# Altium integrated library Maxim Sensors.IntLib: 1171 symbols (part 7 of 61)
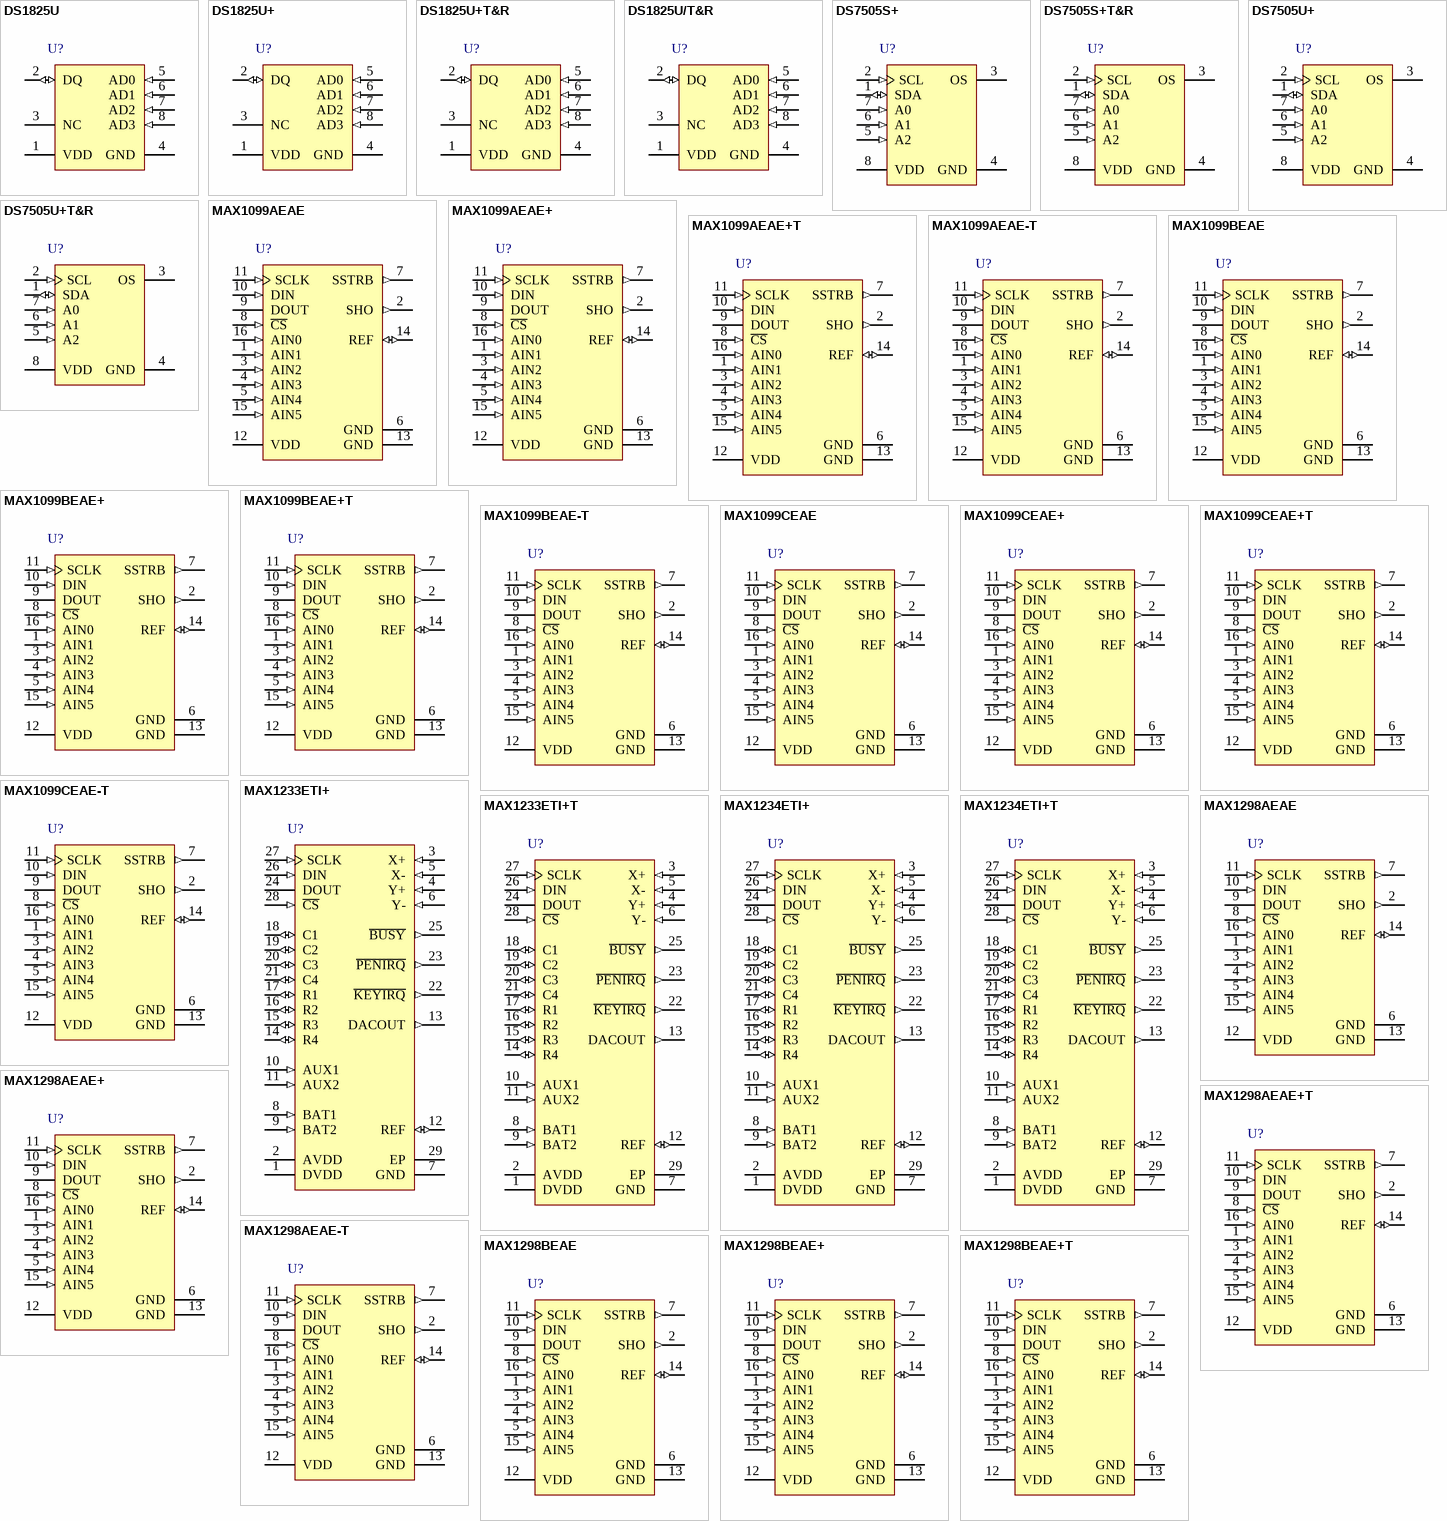
[diagram p39: symbols DS1825U to MAX1298BEAE+T]

## DS1825U+
designator U?
Programmable 1-Wire Digital Thermometer with 4-bit Address, -55 to 125 degC, 8-Pin SOP (U8+1), Pb-Free; Generic Part Number: DS1825; PartNumber: DS1825U+; Parasite Pwr.: Yes; Sensor Type: Local; Temp. Thresh.: Programmable (NV); DatasheetVersion: Rev. 0; PackageVersion: Rev. L, 08/2009; PackageReference: U8+1; PackageDescription: 8-Pin Micro-MAX, Thin Shrink Small-Outline (U8+1), Body 3 x 3 mm, Pitch 0.65 mm; Supplier 1: Digi-Key; Supplier Part Number 1: DS1825U+-ND; Supplier 2: Farnell; Supplier Part Number 2: 2085115; Supplier 3: Newark; Supplier Part Number 3: 89T8696; Supplier 4: Newark; Supplier Part Number 4: 57K0888; Supplier 5: Mouser; Supplier Part Number 5: 700-DS1825U; Interface: 1-Wire; RoHS: Pb-Free; Mounting Technology: Surface Mount; Code_JEDEC: MO-187; ComponentLink1Description: Manufacturer URL; ComponentLink1URL: http://www.maximintegrated.com/; ComponentLink2Description: Datasheet; ComponentLink2URL: http://datasheets.maximintegrated.com/en/ds/DS1825.pdf; ComponentLink3Description: Package Specification; ComponentLink3URL: http://pdfserv.maximintegrated.com/package_dwgs/21-0036.PDF
footprint MAXM-U8+1_N (SOP, 8-Leads, Body 3x3mm, Pitch 0.65mm, IPC Medium Density)
footprint MAXM-U8+1_L (SOP, 8-Leads, Body 3x3mm, Pitch 0.65mm, IPC High Density)
footprint MAXM-U8+1_M (SOP, 8-Leads, Body 3x3mm, Pitch 0.65mm, IPC Low Density)
pins: 1 VDD (power) "Optional VDD pin. VDD must be grounded for operation in parasite power mode.", 2 DQ (io) "Data Input/Output pin. Open-drain 1-Wire interface pin. Also provides power to the device when used in parasite power mode (see Parasite Power section.)", 3 NC "No Connection", 4 GND (power) "Ground.", 5 AD0 (in) "Location Address Input Pin LSB", 6 AD1 (in) "Location Address Input Pin", 7 AD2 (in) "Location Address Input Pin", 8 AD3 (in) "Location Address Input Pin MSB"

## DS1825U+T&R
designator U?
Programmable 1-Wire Digital Thermometer with 4-bit Address, -55 to 125 degC, 8-Pin SOP (U8+1), Pb-Free, Tape and Reel; Generic Part Number: DS1825; PartNumber: DS1825U+T&R; Parasite Pwr.: Yes; Sensor Type: Local; Temp. Thresh.: Programmable (NV); DatasheetVersion: Rev. 0; PackageVersion: Rev. L, 08/2009; PackageReference: U8+1; PackageDescription: 8-Pin Micro-MAX, Thin Shrink Small-Outline (U8+1), Body 3 x 3 mm, Pitch 0.65 mm; Supplier 1: Digi-Key; Supplier Part Number 1: DS1825U+T&R-ND; Supplier 2: Mouser; Supplier Part Number 2: 700-DS1825UT&R; Interface: 1-Wire; Packing: Tape and Reel; RoHS: Pb-Free; Mounting Technology: Surface Mount; Code_JEDEC: MO-187; ComponentLink1Description: Manufacturer URL; ComponentLink1URL: http://www.maximintegrated.com/; ComponentLink2Description: Datasheet; ComponentLink2URL: http://datasheets.maximintegrated.com/en/ds/DS1825.pdf; ComponentLink3Description: Package Specification; ComponentLink3URL: http://pdfserv.maximintegrated.com/package_dwgs/21-0036.PDF
footprint MAXM-U8+1_N (SOP, 8-Leads, Body 3x3mm, Pitch 0.65mm, IPC Medium Density)
footprint MAXM-U8+1_L (SOP, 8-Leads, Body 3x3mm, Pitch 0.65mm, IPC High Density)
footprint MAXM-U8+1_M (SOP, 8-Leads, Body 3x3mm, Pitch 0.65mm, IPC Low Density)
pins: 1 VDD (power) "Optional VDD pin. VDD must be grounded for operation in parasite power mode.", 2 DQ (io) "Data Input/Output pin. Open-drain 1-Wire interface pin. Also provides power to the device when used in parasite power mode (see Parasite Power section.)", 3 NC "No Connection", 4 GND (power) "Ground.", 5 AD0 (in) "Location Address Input Pin LSB", 6 AD1 (in) "Location Address Input Pin", 7 AD2 (in) "Location Address Input Pin", 8 AD3 (in) "Location Address Input Pin MSB"

## DS1825U/T&R
designator U?
Programmable 1-Wire Digital Thermometer with 4-bit Address, -55 to 125 degC, 8-Pin SOP (U8-1), Tape and Reel; Generic Part Number: DS1825; PartNumber: DS1825U/T&R; Parasite Pwr.: Yes; Sensor Type: Local; Temp. Thresh.: Programmable (NV); DatasheetVersion: Rev. 0; PackageVersion: Rev. L, 08/2009; PackageReference: U8-1; PackageDescription: 8-Pin Micro-MAX, Thin Shrink Small-Outline (U8-1), Body 3 x 3 mm, Pitch 0.65mm; Supplier 1: Mouser; Supplier Part Number 1: N/A; Interface: 1-Wire; Packing: Tape and Reel; Mounting Technology: Surface Mount; Code_JEDEC: MO-187; ComponentLink1Description: Manufacturer URL; ComponentLink1URL: http://www.maximintegrated.com/; ComponentLink2Description: Datasheet; ComponentLink2URL: http://datasheets.maximintegrated.com/en/ds/DS1825.pdf; ComponentLink3Description: Package Specification; ComponentLink3URL: http://pdfserv.maximintegrated.com/package_dwgs/21-0036.PDF
footprint MAXM-U8-1_N (SOP, 8-Leads, Body 3x3mm, Pitch 0.65mm, IPC Medium Density)
footprint MAXM-U8-1_L (SOP, 8-Leads, Body 3x3mm, Pitch 0.65mm, IPC High Density)
footprint MAXM-U8-1_M (SOP, 8-Leads, Body 3x3mm, Pitch 0.65mm, IPC Low Density)
pins: 1 VDD (power) "Optional VDD pin. VDD must be grounded for operation in parasite power mode.", 2 DQ (io) "Data Input/Output pin. Open-drain 1-Wire interface pin. Also provides power to the device when used in parasite power mode (see Parasite Power section.)", 3 NC "No Connection", 4 GND (power) "Ground.", 5 AD0 (in) "Location Address Input Pin LSB", 6 AD1 (in) "Location Address Input Pin", 7 AD2 (in) "Location Address Input Pin", 8 AD3 (in) "Location Address Input Pin MSB"

## DS7505S+
designator U?
High-Precision DS75 Compatible Digital Thermometer and Thermostat, 9 to 12 Bits Temperature Resolution, -55 to 125 degC, 8-Pin SOIC (S8+2), Pb-Free; Generic Part Number: DS7505; PartNumber: DS7505S+; Functions: Standalone Thermostat; Interface: 2-Wire/I2C/SMBus; Multi Droppable: Yes; Parasite Pwr.: No; DatasheetVersion: Rev. 1; PackageVersion: Rev. D, 10/2012; PackageReference: S8+2; PackageDescription: 8-Pin Small-Outline IC, Narrow (0.15in) (S8+2), Body 4.90 x 3.90 mm, Pitch 1.27 mm; Supplier 1: Digi-Key; Supplier Part Number 1: DS7505S+-ND; Supplier 2: Farnell; Supplier Part Number 2: 1673131; Supplier 3: Newark; Supplier Part Number 3: 26R5865; Supplier 4: Mouser; Supplier Part Number 4: 700-DS7505S; Mounting Technology: Surface Mount; Code_JEDEC: MS012; ComponentLink1Description: Manufacturer URL; ComponentLink1URL: http://www.maximintegrated.com/; ComponentLink2Description: Datasheet; ComponentLink2URL: http://datasheets.maximintegrated.com/en/ds/DS7505.pdf; ComponentLink3Description: Package Specification; ComponentLink3URL: http://pdfserv.maximintegrated.com/package_dwgs/21-0041.PDF
footprint MAXM-S8+2_N (SOIC, 8-Leads, Body 4.90x3.90mm, Pitch 1.27mm, IPC Medium Density)
footprint MAXM-S8+2_L (SOIC, 8-Leads, Body 4.90x3.90mm, Pitch 1.27mm, IPC High Density)
footprint MAXM-S8+2_M (SOIC, 8-Leads, Body 4.90x3.90mm, Pitch 1.27mm, IPC Low Density)
pins: 1 SDA (io) "Data input/output pin for 2-wire serial communication port. Open drain.", 2 SCL (in) "Clock input pin for 2-wire serial communication port.", 3 OS (oc) "Thermostat output. Open drain.", 4 GND (power) "Ground pin.", 5 A2 (in) "Address input pin.", 6 A1 (in) "Address input pin.", 7 A0 (in) "Address input pin.", 8 VDD (power) "Supply Voltage. +2.7V to +5.5V supply pin."

## DS7505S+T&R
designator U?
High-Precision DS75 Compatible Digital Thermometer and Thermostat, 9 to 12 Bits Temperature Resolution, -55 to 125 degC, 8-Pin SOIC (S8+2), Pb-Free, Tape and Reel; Generic Part Number: DS7505; PartNumber: DS7505S+T&R; Functions: Standalone Thermostat; Interface: 2-Wire/I2C/SMBus; Multi Droppable: Yes; Parasite Pwr.: No; DatasheetVersion: Rev. 1; PackageVersion: Rev. D, 10/2012; PackageReference: S8+2; PackageDescription: 8-Pin Small-Outline IC, Narrow (0.15in) (S8+2), Body 4.90 x 3.90 mm, Pitch 1.27 mm; Supplier 1: Digi-Key; Supplier Part Number 1: DS7505S+T&R-ND; Supplier 2: Mouser; Supplier Part Number 2: 700-DS7505S+T&R; Packing: Tape and Reel; Mounting Technology: Surface Mount; Code_JEDEC: MS012; ComponentLink1Description: Manufacturer URL; ComponentLink1URL: http://www.maximintegrated.com/; ComponentLink2Description: Datasheet; ComponentLink2URL: http://datasheets.maximintegrated.com/en/ds/DS7505.pdf; ComponentLink3Description: Package Specification; ComponentLink3URL: http://pdfserv.maximintegrated.com/package_dwgs/21-0041.PDF
footprint MAXM-S8+2_N (SOIC, 8-Leads, Body 4.90x3.90mm, Pitch 1.27mm, IPC Medium Density)
footprint MAXM-S8+2_L (SOIC, 8-Leads, Body 4.90x3.90mm, Pitch 1.27mm, IPC High Density)
footprint MAXM-S8+2_M (SOIC, 8-Leads, Body 4.90x3.90mm, Pitch 1.27mm, IPC Low Density)
pins: 1 SDA (io) "Data input/output pin for 2-wire serial communication port. Open drain.", 2 SCL (in) "Clock input pin for 2-wire serial communication port.", 3 OS (oc) "Thermostat output. Open drain.", 4 GND (power) "Ground pin.", 5 A2 (in) "Address input pin.", 6 A1 (in) "Address input pin.", 7 A0 (in) "Address input pin.", 8 VDD (power) "Supply Voltage. +2.7V to +5.5V supply pin."

## DS7505U+
designator U?
High-Precision DS75 Compatible Digital Thermometer and Thermostat, 9 to 12 Bits Temperature Resolution, -55 to 125 degC, 8-Pin SOP (U8+3), Pb-Free; Generic Part Number: DS7505; PartNumber: DS7505U+; Functions: Standalone Thermostat; Interface: 2-Wire/I2C/SMBus; Multi Droppable: Yes; Parasite Pwr.: No; DatasheetVersion: Rev. 1; PackageVersion: Rev. L, 08/2009; PackageReference: U8+3; PackageDescription: 8-Pin Micro-MAX, Thin Shrink Small-Outline (U8+3), Body 3 x 3 mm, Pitch 0.65 mm; Supplier 1: Digi-Key; Supplier Part Number 1: DS7505U+-ND; Supplier 2: Farnell; Supplier Part Number 2: 2212246; Supplier 3: Newark; Supplier Part Number 3: 45W6230; Supplier 4: Mouser; Supplier Part Number 4: 700-DS7505U; Mounting Technology: Surface Mount; Code_JEDEC: MO-187; ComponentLink1Description: Manufacturer URL; ComponentLink1URL: http://www.maximintegrated.com/; ComponentLink2Description: Datasheet; ComponentLink2URL: http://datasheets.maximintegrated.com/en/ds/DS7505.pdf; ComponentLink3Description: Package Specification; ComponentLink3URL: http://pdfserv.maximintegrated.com/package_dwgs/21-0036.PDF
footprint MAXM-U8+3_N (SOP, 8-Leads, Body 3x3mm, Pitch 0.65mm, IPC Medium Density)
footprint MAXM-U8+3_L (SOP, 8-Leads, Body 3x3mm, Pitch 0.65mm, IPC High Density)
footprint MAXM-U8+3_M (SOP, 8-Leads, Body 3x3mm, Pitch 0.65mm, IPC Low Density)
pins: 1 SDA (io) "Data input/output pin for 2-wire serial communication port. Open drain.", 2 SCL (in) "Clock input pin for 2-wire serial communication port.", 3 OS (oc) "Thermostat output. Open drain.", 4 GND (power) "Ground pin.", 5 A2 (in) "Address input pin.", 6 A1 (in) "Address input pin.", 7 A0 (in) "Address input pin.", 8 VDD (power) "Supply Voltage. +2.7V to +5.5V supply pin."

## DS7505U+T&R
designator U?
High-Precision DS75 Compatible Digital Thermometer and Thermostat, 9 to 12 Bits Temperature Resolution, -55 to 125 degC, 8-Pin SOP (U8+3), Pb-Free, Tape and Reel; Generic Part Number: DS7505; PartNumber: DS7505U+T&R; Functions: Standalone Thermostat; Interface: 2-Wire/I2C/SMBus; Multi Droppable: Yes; Parasite Pwr.: No; DatasheetVersion: Rev. 1; PackageVersion: Rev. L, 08/2009; PackageReference: U8+3; PackageDescription: 8-Pin Micro-MAX, Thin Shrink Small-Outline (U8+3), Body 3 x 3 mm, Pitch 0.65 mm; Supplier 1: Digi-Key; Supplier Part Number 1: DS7505U+T&R-ND; Supplier 2: Mouser; Supplier Part Number 2: 700-DS7505U+T&R; Packing: Tape and Reel; Mounting Technology: Surface Mount; Code_JEDEC: MO-187; ComponentLink1Description: Manufacturer URL; ComponentLink1URL: http://www.maximintegrated.com/; ComponentLink2Description: Datasheet; ComponentLink2URL: http://datasheets.maximintegrated.com/en/ds/DS7505.pdf; ComponentLink3Description: Package Specification; ComponentLink3URL: http://pdfserv.maximintegrated.com/package_dwgs/21-0036.PDF
footprint MAXM-U8+3_N (SOP, 8-Leads, Body 3x3mm, Pitch 0.65mm, IPC Medium Density)
footprint MAXM-U8+3_L (SOP, 8-Leads, Body 3x3mm, Pitch 0.65mm, IPC High Density)
footprint MAXM-U8+3_M (SOP, 8-Leads, Body 3x3mm, Pitch 0.65mm, IPC Low Density)
pins: 1 SDA (io) "Data input/output pin for 2-wire serial communication port. Open drain.", 2 SCL (in) "Clock input pin for 2-wire serial communication port.", 3 OS (oc) "Thermostat output. Open drain.", 4 GND (power) "Ground pin.", 5 A2 (in) "Address input pin.", 6 A1 (in) "Address input pin.", 7 A0 (in) "Address input pin.", 8 VDD (power) "Supply Voltage. +2.7V to +5.5V supply pin."

## MAX1099AEAE
designator U?
Serial-Output Temperature Sensor with Five-Channel ADC, 10 Bits Temperature Resolution, -40 to 85 degC, 16-Pin SOP (A16-3); Generic Part Number: MAX1099A; PartNumber: MAX1099AEAE; Interface: 3-Wire/SPI; Parasite Pwr.: No; DatasheetVersion: Rev. 0; PackageVersion: Rev. C, 02/2010; PackageReference: A16-3; PackageDescription: 16-Pin Shrink Small-Outline Package, Body 5.29 x 6.2 mm, Pitch 0.65 mm; Supplier 1: Mouser; Supplier Part Number 1: N/A; Mounting Technology: Surface Mount; Code_JEDEC: MO-150; ComponentLink1Description: Manufacturer URL; ComponentLink1URL: http://www.maximintegrated.com/; ComponentLink2Description: Datasheet; ComponentLink2URL: http://datasheets.maximintegrated.com/en/ds/MAX1098-MAX1099C.pdf; ComponentLink3Description: Package Specification; ComponentLink3URL: http://pdfserv.maximintegrated.com/package_dwgs/21-0056.PDF
footprint MAXM-A16-3_N (SOP, 16-Leads, Body 6.2x5.29mm, Pitch 0.65mm, IPC Medium Density)
footprint MAXM-A16-3_L (SOP, 16-Leads, Body 6.2x5.29mm, Pitch 0.65mm, IPC High Density)
footprint MAXM-A16-3_M (SOP, 16-Leads, Body 6.2x5.29mm, Pitch 0.65mm, IPC Low Density)
pins: 1 AIN1 (in) "Analog Input 1. Negative differential input relative to AIN0 or positive differential input relative to AIN5 (Table 5). Connect to the cathode of external diode 1 for remote temperature sensing", 2 SHO (out) "Shield Output. Used to suppress leakage currents at the anodes of remote temperature sensors (see Remote Diode Shielding). May also be connected to the shield of twisted-pair input cables used for remote temperature (See Datasheet)", 3 AIN2 (in) "Analog Input 2. Positive differential input relative to AIN3 or positive differential input relative to AIN5 (Table 5). Connect to the anode of external diode 2 for remote temperature sensing.", 4 AIN3 (in) "Analog Input 3. Negative differential input relative to AIN2 or positive differential input relative to AIN5 (Table 5). Connect to the cathode of external diode 2 for remote temperature sensing.", 5 AIN4 (in) "Analog input 4. Positive differential input relative to AIN5 (Table 5).", 6 GND (power) "Ground. Connect to pin 13.", 7 SSTRB (out) "Serial Strobe Output. SSTRB goes low at the beginning of an A/D conversion, and it goes high when the conversion is finished.", 8 ~{CS} (in) "Active-Low Chip Select. Data will not be clocked into DIN unless C\S\ is low. When C\S\ is high, DOUT is at high impedance.", 9 DOUT (hiz) "Serial Data Output. DOUT transitions on the falling edge of SCLK.", 10 DIN (in) "Serial Data Input. DIN latches data on the rising edge of SCLK. 11 SCLK Serial Clock Input. Clocks data in and out of the serial interface.", 11 SCLK (in) "Serial Clock Input. Clocks data in and out of the serial interface.", 12 VDD (power) "Positive Supply Voltage. Bypass with a 0.1uF capacitor to GND (pin 13).", 13 GND (power) "Ground (star ground)", 14 REF (io) "Reference-Buffer Output/ADC Reference Input. Reference voltage for A/D conversion. Bypass to GND (pin 13) with a 0.1uF capacitor. Select reference mode by writing to configuration byte (Table 2).", 15 AIN5 (in) "Analog Input 5. Negative differential input relative to AIN0-AIN4 (Table 5).", 16 AIN0 (in) "Analog Input 0. Positive differential input relative to AIN1 or positive differential input relative to AIN5 (Table 5). Connect to the anode of external diode 1 for remote temperature sensing."

## MAX1099AEAE+
designator U?
Serial-Output Temperature Sensor with Five-Channel ADC, 10 Bits Temperature Resolution, -40 to 85 degC, 16-Pin SOP (A16+3), Pb-Free; Generic Part Number: MAX1099A; PartNumber: MAX1099AEAE+; Interface: 3-Wire/SPI; Parasite Pwr.: No; DatasheetVersion: Rev. 0; PackageVersion: Rev. C, 02/2010; PackageReference: A16+3; PackageDescription: 16-Pin Shrink Small-Outline Package, Body 5.29 x 6.2 mm, Pitch 0.65 mm; Supplier 1: Mouser; Supplier Part Number 1: N/A; Mounting Technology: Surface Mount; Code_JEDEC: MO-150; ComponentLink1Description: Manufacturer URL; ComponentLink1URL: http://www.maximintegrated.com/; ComponentLink2Description: Datasheet; ComponentLink2URL: http://datasheets.maximintegrated.com/en/ds/MAX1098-MAX1099C.pdf; ComponentLink3Description: Package Specification; ComponentLink3URL: http://pdfserv.maximintegrated.com/package_dwgs/21-0056.PDF
footprint MAXM-A16+3_N (SOP, 16-Leads, Body 6.2x5.29mm, Pitch 0.65mm, IPC Medium Density)
footprint MAXM-A16+3_L (SOP, 16-Leads, Body 6.2x5.29mm, Pitch 0.65mm, IPC High Density)
footprint MAXM-A16+3_M (SOP, 16-Leads, Body 6.2x5.29mm, Pitch 0.65mm, IPC Low Density)
pins: 1 AIN1 (in) "Analog Input 1. Negative differential input relative to AIN0 or positive differential input relative to AIN5 (Table 5). Connect to the cathode of external diode 1 for remote temperature sensing", 2 SHO (out) "Shield Output. Used to suppress leakage currents at the anodes of remote temperature sensors (see Remote Diode Shielding). May also be connected to the shield of twisted-pair input cables used for remote temperature (See Datasheet)", 3 AIN2 (in) "Analog Input 2. Positive differential input relative to AIN3 or positive differential input relative to AIN5 (Table 5). Connect to the anode of external diode 2 for remote temperature sensing.", 4 AIN3 (in) "Analog Input 3. Negative differential input relative to AIN2 or positive differential input relative to AIN5 (Table 5). Connect to the cathode of external diode 2 for remote temperature sensing.", 5 AIN4 (in) "Analog input 4. Positive differential input relative to AIN5 (Table 5).", 6 GND (power) "Ground. Connect to pin 13.", 7 SSTRB (out) "Serial Strobe Output. SSTRB goes low at the beginning of an A/D conversion, and it goes high when the conversion is finished.", 8 ~{CS} (in) "Active-Low Chip Select. Data will not be clocked into DIN unless C\S\ is low. When C\S\ is high, DOUT is at high impedance.", 9 DOUT (hiz) "Serial Data Output. DOUT transitions on the falling edge of SCLK.", 10 DIN (in) "Serial Data Input. DIN latches data on the rising edge of SCLK. 11 SCLK Serial Clock Input. Clocks data in and out of the serial interface.", 11 SCLK (in) "Serial Clock Input. Clocks data in and out of the serial interface.", 12 VDD (power) "Positive Supply Voltage. Bypass with a 0.1uF capacitor to GND (pin 13).", 13 GND (power) "Ground (star ground)", 14 REF (io) "Reference-Buffer Output/ADC Reference Input. Reference voltage for A/D conversion. Bypass to GND (pin 13) with a 0.1uF capacitor. Select reference mode by writing to configuration byte (Table 2).", 15 AIN5 (in) "Analog Input 5. Negative differential input relative to AIN0-AIN4 (Table 5).", 16 AIN0 (in) "Analog Input 0. Positive differential input relative to AIN1 or positive differential input relative to AIN5 (Table 5). Connect to the anode of external diode 1 for remote temperature sensing."

## MAX1099AEAE+T
designator U?
Serial-Output Temperature Sensor with Five-Channel ADC, 10 Bits Temperature Resolution, -40 to 85 degC, 16-Pin SOP (A16+3), Pb-Free, Tape and Reel; Generic Part Number: MAX1099A; PartNumber: MAX1099AEAE+T; Interface: 3-Wire/SPI; Parasite Pwr.: No; DatasheetVersion: Rev. 0; PackageVersion: Rev. C, 02/2010; PackageReference: A16+3; PackageDescription: 16-Pin Shrink Small-Outline Package, Body 5.29 x 6.2 mm, Pitch 0.65 mm; Supplier 1: Mouser; Supplier Part Number 1: N/A; Packing: Tape and Reel; Mounting Technology: Surface Mount; Code_JEDEC: MO-150; ComponentLink1Description: Manufacturer URL; ComponentLink1URL: http://www.maximintegrated.com/; ComponentLink2Description: Datasheet; ComponentLink2URL: http://datasheets.maximintegrated.com/en/ds/MAX1098-MAX1099C.pdf; ComponentLink3Description: Package Specification; ComponentLink3URL: http://pdfserv.maximintegrated.com/package_dwgs/21-0056.PDF
footprint MAXM-A16+3_N (SOP, 16-Leads, Body 6.2x5.29mm, Pitch 0.65mm, IPC Medium Density)
footprint MAXM-A16+3_L (SOP, 16-Leads, Body 6.2x5.29mm, Pitch 0.65mm, IPC High Density)
footprint MAXM-A16+3_M (SOP, 16-Leads, Body 6.2x5.29mm, Pitch 0.65mm, IPC Low Density)
pins: 1 AIN1 (in) "Analog Input 1. Negative differential input relative to AIN0 or positive differential input relative to AIN5 (Table 5). Connect to the cathode of external diode 1 for remote temperature sensing", 2 SHO (out) "Shield Output. Used to suppress leakage currents at the anodes of remote temperature sensors (see Remote Diode Shielding). May also be connected to the shield of twisted-pair input cables used for remote temperature (See Datasheet)", 3 AIN2 (in) "Analog Input 2. Positive differential input relative to AIN3 or positive differential input relative to AIN5 (Table 5). Connect to the anode of external diode 2 for remote temperature sensing.", 4 AIN3 (in) "Analog Input 3. Negative differential input relative to AIN2 or positive differential input relative to AIN5 (Table 5). Connect to the cathode of external diode 2 for remote temperature sensing.", 5 AIN4 (in) "Analog input 4. Positive differential input relative to AIN5 (Table 5).", 6 GND (power) "Ground. Connect to pin 13.", 7 SSTRB (out) "Serial Strobe Output. SSTRB goes low at the beginning of an A/D conversion, and it goes high when the conversion is finished.", 8 ~{CS} (in) "Active-Low Chip Select. Data will not be clocked into DIN unless C\S\ is low. When C\S\ is high, DOUT is at high impedance.", 9 DOUT (hiz) "Serial Data Output. DOUT transitions on the falling edge of SCLK.", 10 DIN (in) "Serial Data Input. DIN latches data on the rising edge of SCLK. 11 SCLK Serial Clock Input. Clocks data in and out of the serial interface.", 11 SCLK (in) "Serial Clock Input. Clocks data in and out of the serial interface.", 12 VDD (power) "Positive Supply Voltage. Bypass with a 0.1uF capacitor to GND (pin 13).", 13 GND (power) "Ground (star ground)", 14 REF (io) "Reference-Buffer Output/ADC Reference Input. Reference voltage for A/D conversion. Bypass to GND (pin 13) with a 0.1uF capacitor. Select reference mode by writing to configuration byte (Table 2).", 15 AIN5 (in) "Analog Input 5. Negative differential input relative to AIN0-AIN4 (Table 5).", 16 AIN0 (in) "Analog Input 0. Positive differential input relative to AIN1 or positive differential input relative to AIN5 (Table 5). Connect to the anode of external diode 1 for remote temperature sensing."

## MAX1099AEAE-T
designator U?
Serial-Output Temperature Sensor with Five-Channel ADC, 10 Bits Temperature Resolution, -40 to 85 degC, 16-Pin SOP (A16-3), Tape and Reel; Generic Part Number: MAX1099A; PartNumber: MAX1099AEAE-T; Interface: 3-Wire/SPI; Parasite Pwr.: No; DatasheetVersion: Rev. 0; PackageVersion: Rev. C, 02/2010; PackageReference: A16-3; PackageDescription: 16-Pin Shrink Small-Outline Package, Body 5.29 x 6.2 mm, Pitch 0.65 mm; Supplier 1: Mouser; Supplier Part Number 1: N/A; Packing: Tape and Reel; Mounting Technology: Surface Mount; Code_JEDEC: MO-150; ComponentLink1Description: Manufacturer URL; ComponentLink1URL: http://www.maximintegrated.com/; ComponentLink2Description: Datasheet; ComponentLink2URL: http://datasheets.maximintegrated.com/en/ds/MAX1098-MAX1099C.pdf; ComponentLink3Description: Package Specification; ComponentLink3URL: http://pdfserv.maximintegrated.com/package_dwgs/21-0056.PDF
footprint MAXM-A16-3_N (SOP, 16-Leads, Body 6.2x5.29mm, Pitch 0.65mm, IPC Medium Density)
footprint MAXM-A16-3_L (SOP, 16-Leads, Body 6.2x5.29mm, Pitch 0.65mm, IPC High Density)
footprint MAXM-A16-3_M (SOP, 16-Leads, Body 6.2x5.29mm, Pitch 0.65mm, IPC Low Density)
pins: 1 AIN1 (in) "Analog Input 1. Negative differential input relative to AIN0 or positive differential input relative to AIN5 (Table 5). Connect to the cathode of external diode 1 for remote temperature sensing", 2 SHO (out) "Shield Output. Used to suppress leakage currents at the anodes of remote temperature sensors (see Remote Diode Shielding). May also be connected to the shield of twisted-pair input cables used for remote temperature (See Datasheet)", 3 AIN2 (in) "Analog Input 2. Positive differential input relative to AIN3 or positive differential input relative to AIN5 (Table 5). Connect to the anode of external diode 2 for remote temperature sensing.", 4 AIN3 (in) "Analog Input 3. Negative differential input relative to AIN2 or positive differential input relative to AIN5 (Table 5). Connect to the cathode of external diode 2 for remote temperature sensing.", 5 AIN4 (in) "Analog input 4. Positive differential input relative to AIN5 (Table 5).", 6 GND (power) "Ground. Connect to pin 13.", 7 SSTRB (out) "Serial Strobe Output. SSTRB goes low at the beginning of an A/D conversion, and it goes high when the conversion is finished.", 8 ~{CS} (in) "Active-Low Chip Select. Data will not be clocked into DIN unless C\S\ is low. When C\S\ is high, DOUT is at high impedance.", 9 DOUT (hiz) "Serial Data Output. DOUT transitions on the falling edge of SCLK.", 10 DIN (in) "Serial Data Input. DIN latches data on the rising edge of SCLK. 11 SCLK Serial Clock Input. Clocks data in and out of the serial interface.", 11 SCLK (in) "Serial Clock Input. Clocks data in and out of the serial interface.", 12 VDD (power) "Positive Supply Voltage. Bypass with a 0.1uF capacitor to GND (pin 13).", 13 GND (power) "Ground (star ground)", 14 REF (io) "Reference-Buffer Output/ADC Reference Input. Reference voltage for A/D conversion. Bypass to GND (pin 13) with a 0.1uF capacitor. Select reference mode by writing to configuration byte (Table 2).", 15 AIN5 (in) "Analog Input 5. Negative differential input relative to AIN0-AIN4 (Table 5).", 16 AIN0 (in) "Analog Input 0. Positive differential input relative to AIN1 or positive differential input relative to AIN5 (Table 5). Connect to the anode of external diode 1 for remote temperature sensing."

## MAX1099BEAE
designator U?
Serial-Output Temperature Sensor with Five-Channel ADC, 10 Bits Temperature Resolution, -40 to 85 degC, 16-Pin SOP (A16-3); Generic Part Number: MAX1099B; PartNumber: MAX1099BEAE; Interface: 3-Wire/SPI; Parasite Pwr.: No; DatasheetVersion: Rev. 0; PackageVersion: Rev. C, 02/2010; PackageReference: A16-3; PackageDescription: 16-Pin Shrink Small-Outline Package, Body 5.29 x 6.2 mm, Pitch 0.65 mm; Supplier 1: Mouser; Supplier Part Number 1: N/A; Mounting Technology: Surface Mount; Code_JEDEC: MO-150; ComponentLink1Description: Manufacturer URL; ComponentLink1URL: http://www.maximintegrated.com/; ComponentLink2Description: Datasheet; ComponentLink2URL: http://datasheets.maximintegrated.com/en/ds/MAX1098-MAX1099C.pdf; ComponentLink3Description: Package Specification; ComponentLink3URL: http://pdfserv.maximintegrated.com/package_dwgs/21-0056.PDF
footprint MAXM-A16-3_N (SOP, 16-Leads, Body 6.2x5.29mm, Pitch 0.65mm, IPC Medium Density)
footprint MAXM-A16-3_L (SOP, 16-Leads, Body 6.2x5.29mm, Pitch 0.65mm, IPC High Density)
footprint MAXM-A16-3_M (SOP, 16-Leads, Body 6.2x5.29mm, Pitch 0.65mm, IPC Low Density)
pins: 1 AIN1 (in) "Analog Input 1. Negative differential input relative to AIN0 or positive differential input relative to AIN5 (Table 5). Connect to the cathode of external diode 1 for remote temperature sensing", 2 SHO (out) "Shield Output. Used to suppress leakage currents at the anodes of remote temperature sensors (see Remote Diode Shielding). May also be connected to the shield of twisted-pair input cables used for remote temperature (See Datasheet)", 3 AIN2 (in) "Analog Input 2. Positive differential input relative to AIN3 or positive differential input relative to AIN5 (Table 5). Connect to the anode of external diode 2 for remote temperature sensing.", 4 AIN3 (in) "Analog Input 3. Negative differential input relative to AIN2 or positive differential input relative to AIN5 (Table 5). Connect to the cathode of external diode 2 for remote temperature sensing.", 5 AIN4 (in) "Analog input 4. Positive differential input relative to AIN5 (Table 5).", 6 GND (power) "Ground. Connect to pin 13.", 7 SSTRB (out) "Serial Strobe Output. SSTRB goes low at the beginning of an A/D conversion, and it goes high when the conversion is finished.", 8 ~{CS} (in) "Active-Low Chip Select. Data will not be clocked into DIN unless C\S\ is low. When C\S\ is high, DOUT is at high impedance.", 9 DOUT (hiz) "Serial Data Output. DOUT transitions on the falling edge of SCLK.", 10 DIN (in) "Serial Data Input. DIN latches data on the rising edge of SCLK. 11 SCLK Serial Clock Input. Clocks data in and out of the serial interface.", 11 SCLK (in) "Serial Clock Input. Clocks data in and out of the serial interface.", 12 VDD (power) "Positive Supply Voltage. Bypass with a 0.1uF capacitor to GND (pin 13).", 13 GND (power) "Ground (star ground)", 14 REF (io) "Reference-Buffer Output/ADC Reference Input. Reference voltage for A/D conversion. Bypass to GND (pin 13) with a 0.1uF capacitor. Select reference mode by writing to configuration byte (Table 2).", 15 AIN5 (in) "Analog Input 5. Negative differential input relative to AIN0-AIN4 (Table 5).", 16 AIN0 (in) "Analog Input 0. Positive differential input relative to AIN1 or positive differential input relative to AIN5 (Table 5). Connect to the anode of external diode 1 for remote temperature sensing."

## MAX1099BEAE+
designator U?
Serial-Output Temperature Sensor with Five-Channel ADC, 10 Bits Temperature Resolution, -40 to 85 degC, 16-Pin SOP (A16+3), Pb-Free; Generic Part Number: MAX1099B; PartNumber: MAX1099BEAE+; Interface: 3-Wire/SPI; Parasite Pwr.: No; DatasheetVersion: Rev. 0; PackageVersion: Rev. C, 02/2010; PackageReference: A16+3; PackageDescription: 16-Pin Shrink Small-Outline Package, Body 5.29 x 6.2 mm, Pitch 0.65 mm; Supplier 1: Mouser; Supplier Part Number 1: N/A; Mounting Technology: Surface Mount; Code_JEDEC: MO-150; ComponentLink1Description: Manufacturer URL; ComponentLink1URL: http://www.maximintegrated.com/; ComponentLink2Description: Datasheet; ComponentLink2URL: http://datasheets.maximintegrated.com/en/ds/MAX1098-MAX1099C.pdf; ComponentLink3Description: Package Specification; ComponentLink3URL: http://pdfserv.maximintegrated.com/package_dwgs/21-0056.PDF
footprint MAXM-A16+3_N (SOP, 16-Leads, Body 6.2x5.29mm, Pitch 0.65mm, IPC Medium Density)
footprint MAXM-A16+3_L (SOP, 16-Leads, Body 6.2x5.29mm, Pitch 0.65mm, IPC High Density)
footprint MAXM-A16+3_M (SOP, 16-Leads, Body 6.2x5.29mm, Pitch 0.65mm, IPC Low Density)
pins: 1 AIN1 (in) "Analog Input 1. Negative differential input relative to AIN0 or positive differential input relative to AIN5 (Table 5). Connect to the cathode of external diode 1 for remote temperature sensing", 2 SHO (out) "Shield Output. Used to suppress leakage currents at the anodes of remote temperature sensors (see Remote Diode Shielding). May also be connected to the shield of twisted-pair input cables used for remote temperature (See Datasheet)", 3 AIN2 (in) "Analog Input 2. Positive differential input relative to AIN3 or positive differential input relative to AIN5 (Table 5). Connect to the anode of external diode 2 for remote temperature sensing.", 4 AIN3 (in) "Analog Input 3. Negative differential input relative to AIN2 or positive differential input relative to AIN5 (Table 5). Connect to the cathode of external diode 2 for remote temperature sensing.", 5 AIN4 (in) "Analog input 4. Positive differential input relative to AIN5 (Table 5).", 6 GND (power) "Ground. Connect to pin 13.", 7 SSTRB (out) "Serial Strobe Output. SSTRB goes low at the beginning of an A/D conversion, and it goes high when the conversion is finished.", 8 ~{CS} (in) "Active-Low Chip Select. Data will not be clocked into DIN unless C\S\ is low. When C\S\ is high, DOUT is at high impedance.", 9 DOUT (hiz) "Serial Data Output. DOUT transitions on the falling edge of SCLK.", 10 DIN (in) "Serial Data Input. DIN latches data on the rising edge of SCLK. 11 SCLK Serial Clock Input. Clocks data in and out of the serial interface.", 11 SCLK (in) "Serial Clock Input. Clocks data in and out of the serial interface.", 12 VDD (power) "Positive Supply Voltage. Bypass with a 0.1uF capacitor to GND (pin 13).", 13 GND (power) "Ground (star ground)", 14 REF (io) "Reference-Buffer Output/ADC Reference Input. Reference voltage for A/D conversion. Bypass to GND (pin 13) with a 0.1uF capacitor. Select reference mode by writing to configuration byte (Table 2).", 15 AIN5 (in) "Analog Input 5. Negative differential input relative to AIN0-AIN4 (Table 5).", 16 AIN0 (in) "Analog Input 0. Positive differential input relative to AIN1 or positive differential input relative to AIN5 (Table 5). Connect to the anode of external diode 1 for remote temperature sensing."

## MAX1099BEAE+T
designator U?
Serial-Output Temperature Sensor with Five-Channel ADC, 10 Bits Temperature Resolution, -40 to 85 degC, 16-Pin SOP (A16+3), Pb-Free, Tape and Reel; Generic Part Number: MAX1099B; PartNumber: MAX1099BEAE+T; Interface: 3-Wire/SPI; Parasite Pwr.: No; DatasheetVersion: Rev. 0; PackageVersion: Rev. C, 02/2010; PackageReference: A16+3; PackageDescription: 16-Pin Shrink Small-Outline Package, Body 5.29 x 6.2 mm, Pitch 0.65 mm; Supplier 1: Mouser; Supplier Part Number 1: N/A; Packing: Tape and Reel; Mounting Technology: Surface Mount; Code_JEDEC: MO-150; ComponentLink1Description: Manufacturer URL; ComponentLink1URL: http://www.maximintegrated.com/; ComponentLink2Description: Datasheet; ComponentLink2URL: http://datasheets.maximintegrated.com/en/ds/MAX1098-MAX1099C.pdf; ComponentLink3Description: Package Specification; ComponentLink3URL: http://pdfserv.maximintegrated.com/package_dwgs/21-0056.PDF
footprint MAXM-A16+3_N (SOP, 16-Leads, Body 6.2x5.29mm, Pitch 0.65mm, IPC Medium Density)
footprint MAXM-A16+3_L (SOP, 16-Leads, Body 6.2x5.29mm, Pitch 0.65mm, IPC High Density)
footprint MAXM-A16+3_M (SOP, 16-Leads, Body 6.2x5.29mm, Pitch 0.65mm, IPC Low Density)
pins: 1 AIN1 (in) "Analog Input 1. Negative differential input relative to AIN0 or positive differential input relative to AIN5 (Table 5). Connect to the cathode of external diode 1 for remote temperature sensing", 2 SHO (out) "Shield Output. Used to suppress leakage currents at the anodes of remote temperature sensors (see Remote Diode Shielding). May also be connected to the shield of twisted-pair input cables used for remote temperature (See Datasheet)", 3 AIN2 (in) "Analog Input 2. Positive differential input relative to AIN3 or positive differential input relative to AIN5 (Table 5). Connect to the anode of external diode 2 for remote temperature sensing.", 4 AIN3 (in) "Analog Input 3. Negative differential input relative to AIN2 or positive differential input relative to AIN5 (Table 5). Connect to the cathode of external diode 2 for remote temperature sensing.", 5 AIN4 (in) "Analog input 4. Positive differential input relative to AIN5 (Table 5).", 6 GND (power) "Ground. Connect to pin 13.", 7 SSTRB (out) "Serial Strobe Output. SSTRB goes low at the beginning of an A/D conversion, and it goes high when the conversion is finished.", 8 ~{CS} (in) "Active-Low Chip Select. Data will not be clocked into DIN unless C\S\ is low. When C\S\ is high, DOUT is at high impedance.", 9 DOUT (hiz) "Serial Data Output. DOUT transitions on the falling edge of SCLK.", 10 DIN (in) "Serial Data Input. DIN latches data on the rising edge of SCLK. 11 SCLK Serial Clock Input. Clocks data in and out of the serial interface.", 11 SCLK (in) "Serial Clock Input. Clocks data in and out of the serial interface.", 12 VDD (power) "Positive Supply Voltage. Bypass with a 0.1uF capacitor to GND (pin 13).", 13 GND (power) "Ground (star ground)", 14 REF (io) "Reference-Buffer Output/ADC Reference Input. Reference voltage for A/D conversion. Bypass to GND (pin 13) with a 0.1uF capacitor. Select reference mode by writing to configuration byte (Table 2).", 15 AIN5 (in) "Analog Input 5. Negative differential input relative to AIN0-AIN4 (Table 5).", 16 AIN0 (in) "Analog Input 0. Positive differential input relative to AIN1 or positive differential input relative to AIN5 (Table 5). Connect to the anode of external diode 1 for remote temperature sensing."

## MAX1099BEAE-T
designator U?
Serial-Output Temperature Sensor with Five-Channel ADC, 10 Bits Temperature Resolution, -40 to 85 degC, 16-Pin SOP (A16-3), Tape and Reel; Generic Part Number: MAX1099B; PartNumber: MAX1099BEAE-T; Interface: 3-Wire/SPI; Parasite Pwr.: No; DatasheetVersion: Rev. 0; PackageVersion: Rev. C, 02/2010; PackageReference: A16-3; PackageDescription: 16-Pin Shrink Small-Outline Package, Body 5.29 x 6.2 mm, Pitch 0.65 mm; Supplier 1: Mouser; Supplier Part Number 1: N/A; Packing: Tape and Reel; Mounting Technology: Surface Mount; Code_JEDEC: MO-150; ComponentLink1Description: Manufacturer URL; ComponentLink1URL: http://www.maximintegrated.com/; ComponentLink2Description: Datasheet; ComponentLink2URL: http://datasheets.maximintegrated.com/en/ds/MAX1098-MAX1099C.pdf; ComponentLink3Description: Package Specification; ComponentLink3URL: http://pdfserv.maximintegrated.com/package_dwgs/21-0056.PDF
footprint MAXM-A16-3_N (SOP, 16-Leads, Body 6.2x5.29mm, Pitch 0.65mm, IPC Medium Density)
footprint MAXM-A16-3_L (SOP, 16-Leads, Body 6.2x5.29mm, Pitch 0.65mm, IPC High Density)
footprint MAXM-A16-3_M (SOP, 16-Leads, Body 6.2x5.29mm, Pitch 0.65mm, IPC Low Density)
pins: 1 AIN1 (in) "Analog Input 1. Negative differential input relative to AIN0 or positive differential input relative to AIN5 (Table 5). Connect to the cathode of external diode 1 for remote temperature sensing", 2 SHO (out) "Shield Output. Used to suppress leakage currents at the anodes of remote temperature sensors (see Remote Diode Shielding). May also be connected to the shield of twisted-pair input cables used for remote temperature (See Datasheet)", 3 AIN2 (in) "Analog Input 2. Positive differential input relative to AIN3 or positive differential input relative to AIN5 (Table 5). Connect to the anode of external diode 2 for remote temperature sensing.", 4 AIN3 (in) "Analog Input 3. Negative differential input relative to AIN2 or positive differential input relative to AIN5 (Table 5). Connect to the cathode of external diode 2 for remote temperature sensing.", 5 AIN4 (in) "Analog input 4. Positive differential input relative to AIN5 (Table 5).", 6 GND (power) "Ground. Connect to pin 13.", 7 SSTRB (out) "Serial Strobe Output. SSTRB goes low at the beginning of an A/D conversion, and it goes high when the conversion is finished.", 8 ~{CS} (in) "Active-Low Chip Select. Data will not be clocked into DIN unless C\S\ is low. When C\S\ is high, DOUT is at high impedance.", 9 DOUT (hiz) "Serial Data Output. DOUT transitions on the falling edge of SCLK.", 10 DIN (in) "Serial Data Input. DIN latches data on the rising edge of SCLK. 11 SCLK Serial Clock Input. Clocks data in and out of the serial interface.", 11 SCLK (in) "Serial Clock Input. Clocks data in and out of the serial interface.", 12 VDD (power) "Positive Supply Voltage. Bypass with a 0.1uF capacitor to GND (pin 13).", 13 GND (power) "Ground (star ground)", 14 REF (io) "Reference-Buffer Output/ADC Reference Input. Reference voltage for A/D conversion. Bypass to GND (pin 13) with a 0.1uF capacitor. Select reference mode by writing to configuration byte (Table 2).", 15 AIN5 (in) "Analog Input 5. Negative differential input relative to AIN0-AIN4 (Table 5).", 16 AIN0 (in) "Analog Input 0. Positive differential input relative to AIN1 or positive differential input relative to AIN5 (Table 5). Connect to the anode of external diode 1 for remote temperature sensing."

## MAX1099CEAE
designator U?
Serial-Output Temperature Sensor with Five-Channel ADC, 10 Bits Temperature Resolution, -40 to 85 degC, 16-Pin SOP (A16-3); Generic Part Number: MAX1099C; PartNumber: MAX1099CEAE; Interface: 3-Wire/SPI; Parasite Pwr.: No; DatasheetVersion: Rev. 0; PackageVersion: Rev. C, 02/2010; PackageReference: A16-3; PackageDescription: 16-Pin Shrink Small-Outline Package, Body 5.29 x 6.2 mm, Pitch 0.65 mm; Supplier 1: Mouser; Supplier Part Number 1: N/A; Mounting Technology: Surface Mount; Code_JEDEC: MO-150; ComponentLink1Description: Manufacturer URL; ComponentLink1URL: http://www.maximintegrated.com/; ComponentLink2Description: Datasheet; ComponentLink2URL: http://datasheets.maximintegrated.com/en/ds/MAX1098-MAX1099C.pdf; ComponentLink3Description: Package Specification; ComponentLink3URL: http://pdfserv.maximintegrated.com/package_dwgs/21-0056.PDF
footprint MAXM-A16-3_N (SOP, 16-Leads, Body 6.2x5.29mm, Pitch 0.65mm, IPC Medium Density)
footprint MAXM-A16-3_L (SOP, 16-Leads, Body 6.2x5.29mm, Pitch 0.65mm, IPC High Density)
footprint MAXM-A16-3_M (SOP, 16-Leads, Body 6.2x5.29mm, Pitch 0.65mm, IPC Low Density)
pins: 1 AIN1 (in) "Analog Input 1. Negative differential input relative to AIN0 or positive differential input relative to AIN5 (Table 5). Connect to the cathode of external diode 1 for remote temperature sensing", 2 SHO (out) "Shield Output. Used to suppress leakage currents at the anodes of remote temperature sensors (see Remote Diode Shielding). May also be connected to the shield of twisted-pair input cables used for remote temperature (See Datasheet)", 3 AIN2 (in) "Analog Input 2. Positive differential input relative to AIN3 or positive differential input relative to AIN5 (Table 5). Connect to the anode of external diode 2 for remote temperature sensing.", 4 AIN3 (in) "Analog Input 3. Negative differential input relative to AIN2 or positive differential input relative to AIN5 (Table 5). Connect to the cathode of external diode 2 for remote temperature sensing.", 5 AIN4 (in) "Analog input 4. Positive differential input relative to AIN5 (Table 5).", 6 GND (power) "Ground. Connect to pin 13.", 7 SSTRB (out) "Serial Strobe Output. SSTRB goes low at the beginning of an A/D conversion, and it goes high when the conversion is finished.", 8 ~{CS} (in) "Active-Low Chip Select. Data will not be clocked into DIN unless C\S\ is low. When C\S\ is high, DOUT is at high impedance.", 9 DOUT (hiz) "Serial Data Output. DOUT transitions on the falling edge of SCLK.", 10 DIN (in) "Serial Data Input. DIN latches data on the rising edge of SCLK. 11 SCLK Serial Clock Input. Clocks data in and out of the serial interface.", 11 SCLK (in) "Serial Clock Input. Clocks data in and out of the serial interface.", 12 VDD (power) "Positive Supply Voltage. Bypass with a 0.1uF capacitor to GND (pin 13).", 13 GND (power) "Ground (star ground)", 14 REF (io) "Reference-Buffer Output/ADC Reference Input. Reference voltage for A/D conversion. Bypass to GND (pin 13) with a 0.1uF capacitor. Select reference mode by writing to configuration byte (Table 2).", 15 AIN5 (in) "Analog Input 5. Negative differential input relative to AIN0-AIN4 (Table 5).", 16 AIN0 (in) "Analog Input 0. Positive differential input relative to AIN1 or positive differential input relative to AIN5 (Table 5). Connect to the anode of external diode 1 for remote temperature sensing."

## MAX1099CEAE+
designator U?
Serial-Output Temperature Sensor with Five-Channel ADC, 10 Bits Temperature Resolution, -40 to 85 degC, 16-Pin SOP (A16+3), Pb-Free; Generic Part Number: MAX1099C; PartNumber: MAX1099CEAE+; Interface: 3-Wire/SPI; Parasite Pwr.: No; DatasheetVersion: Rev. 0; PackageVersion: Rev. C, 02/2010; PackageReference: A16+3; PackageDescription: 16-Pin Shrink Small-Outline Package, Body 5.29 x 6.2 mm, Pitch 0.65 mm; Supplier 1: Digi-Key; Supplier Part Number 1: MAX1099CEAE+-ND; Supplier 2: Mouser; Supplier Part Number 2: 700-MAX1099CEAE; Mounting Technology: Surface Mount; Code_JEDEC: MO-150; ComponentLink1Description: Manufacturer URL; ComponentLink1URL: http://www.maximintegrated.com/; ComponentLink2Description: Datasheet; ComponentLink2URL: http://datasheets.maximintegrated.com/en/ds/MAX1098-MAX1099C.pdf; ComponentLink3Description: Package Specification; ComponentLink3URL: http://pdfserv.maximintegrated.com/package_dwgs/21-0056.PDF
footprint MAXM-A16+3_N (SOP, 16-Leads, Body 6.2x5.29mm, Pitch 0.65mm, IPC Medium Density)
footprint MAXM-A16+3_L (SOP, 16-Leads, Body 6.2x5.29mm, Pitch 0.65mm, IPC High Density)
footprint MAXM-A16+3_M (SOP, 16-Leads, Body 6.2x5.29mm, Pitch 0.65mm, IPC Low Density)
pins: 1 AIN1 (in) "Analog Input 1. Negative differential input relative to AIN0 or positive differential input relative to AIN5 (Table 5). Connect to the cathode of external diode 1 for remote temperature sensing", 2 SHO (out) "Shield Output. Used to suppress leakage currents at the anodes of remote temperature sensors (see Remote Diode Shielding). May also be connected to the shield of twisted-pair input cables used for remote temperature (See Datasheet)", 3 AIN2 (in) "Analog Input 2. Positive differential input relative to AIN3 or positive differential input relative to AIN5 (Table 5). Connect to the anode of external diode 2 for remote temperature sensing.", 4 AIN3 (in) "Analog Input 3. Negative differential input relative to AIN2 or positive differential input relative to AIN5 (Table 5). Connect to the cathode of external diode 2 for remote temperature sensing.", 5 AIN4 (in) "Analog input 4. Positive differential input relative to AIN5 (Table 5).", 6 GND (power) "Ground. Connect to pin 13.", 7 SSTRB (out) "Serial Strobe Output. SSTRB goes low at the beginning of an A/D conversion, and it goes high when the conversion is finished.", 8 ~{CS} (in) "Active-Low Chip Select. Data will not be clocked into DIN unless C\S\ is low. When C\S\ is high, DOUT is at high impedance.", 9 DOUT (hiz) "Serial Data Output. DOUT transitions on the falling edge of SCLK.", 10 DIN (in) "Serial Data Input. DIN latches data on the rising edge of SCLK. 11 SCLK Serial Clock Input. Clocks data in and out of the serial interface.", 11 SCLK (in) "Serial Clock Input. Clocks data in and out of the serial interface.", 12 VDD (power) "Positive Supply Voltage. Bypass with a 0.1uF capacitor to GND (pin 13).", 13 GND (power) "Ground (star ground)", 14 REF (io) "Reference-Buffer Output/ADC Reference Input. Reference voltage for A/D conversion. Bypass to GND (pin 13) with a 0.1uF capacitor. Select reference mode by writing to configuration byte (Table 2).", 15 AIN5 (in) "Analog Input 5. Negative differential input relative to AIN0-AIN4 (Table 5).", 16 AIN0 (in) "Analog Input 0. Positive differential input relative to AIN1 or positive differential input relative to AIN5 (Table 5). Connect to the anode of external diode 1 for remote temperature sensing."